# EAGLE library part DRAM_4BX64K_NEC_D41464 (library 07-Retrocomputing)
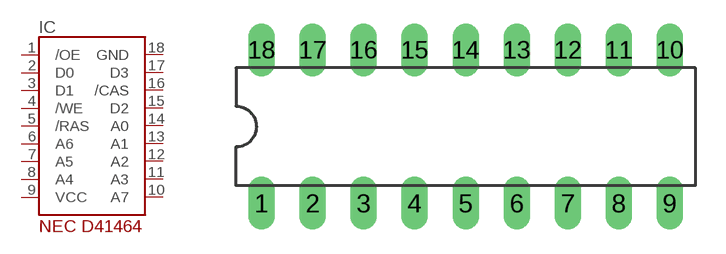
[diagram p14: symbol with the pads of DIL18; footprint DIL18]

Designator prefix IC

## DRAM_4BX64K_NEC_D41464  [DIL18]
1  /OE
2  D0
3  D1
4  /WE
5  /RAS
6  A6
7  A5
8  A4
9  VCC
10  A7
11  A3
12  A2
13  A1
14  A0
15  D2
16  /CAS
17  D3
18  GND

## Footprint DIL18 (pad centres in mm)
Dual In Line Package
drill 0.813 long: 1 -10.16,-3.81; 2 -7.62,-3.81; 3 -5.08,-3.81; 4 -2.54,-3.81; 5 0,-3.81; 6 2.54,-3.81; 7 5.08,-3.81; 8 7.62,-3.81; 9 10.16,-3.81; 10 10.16,3.81; 11 7.62,3.81; 12 5.08,3.81; 13 2.54,3.81; 14 0,3.81; 15 -2.54,3.81; 16 -5.08,3.81; 17 -7.62,3.81; 18 -10.16,3.81